# Altium schematic symbol library SparkFun-LED.SCHLIB: 86 symbols (part 2 of 2)
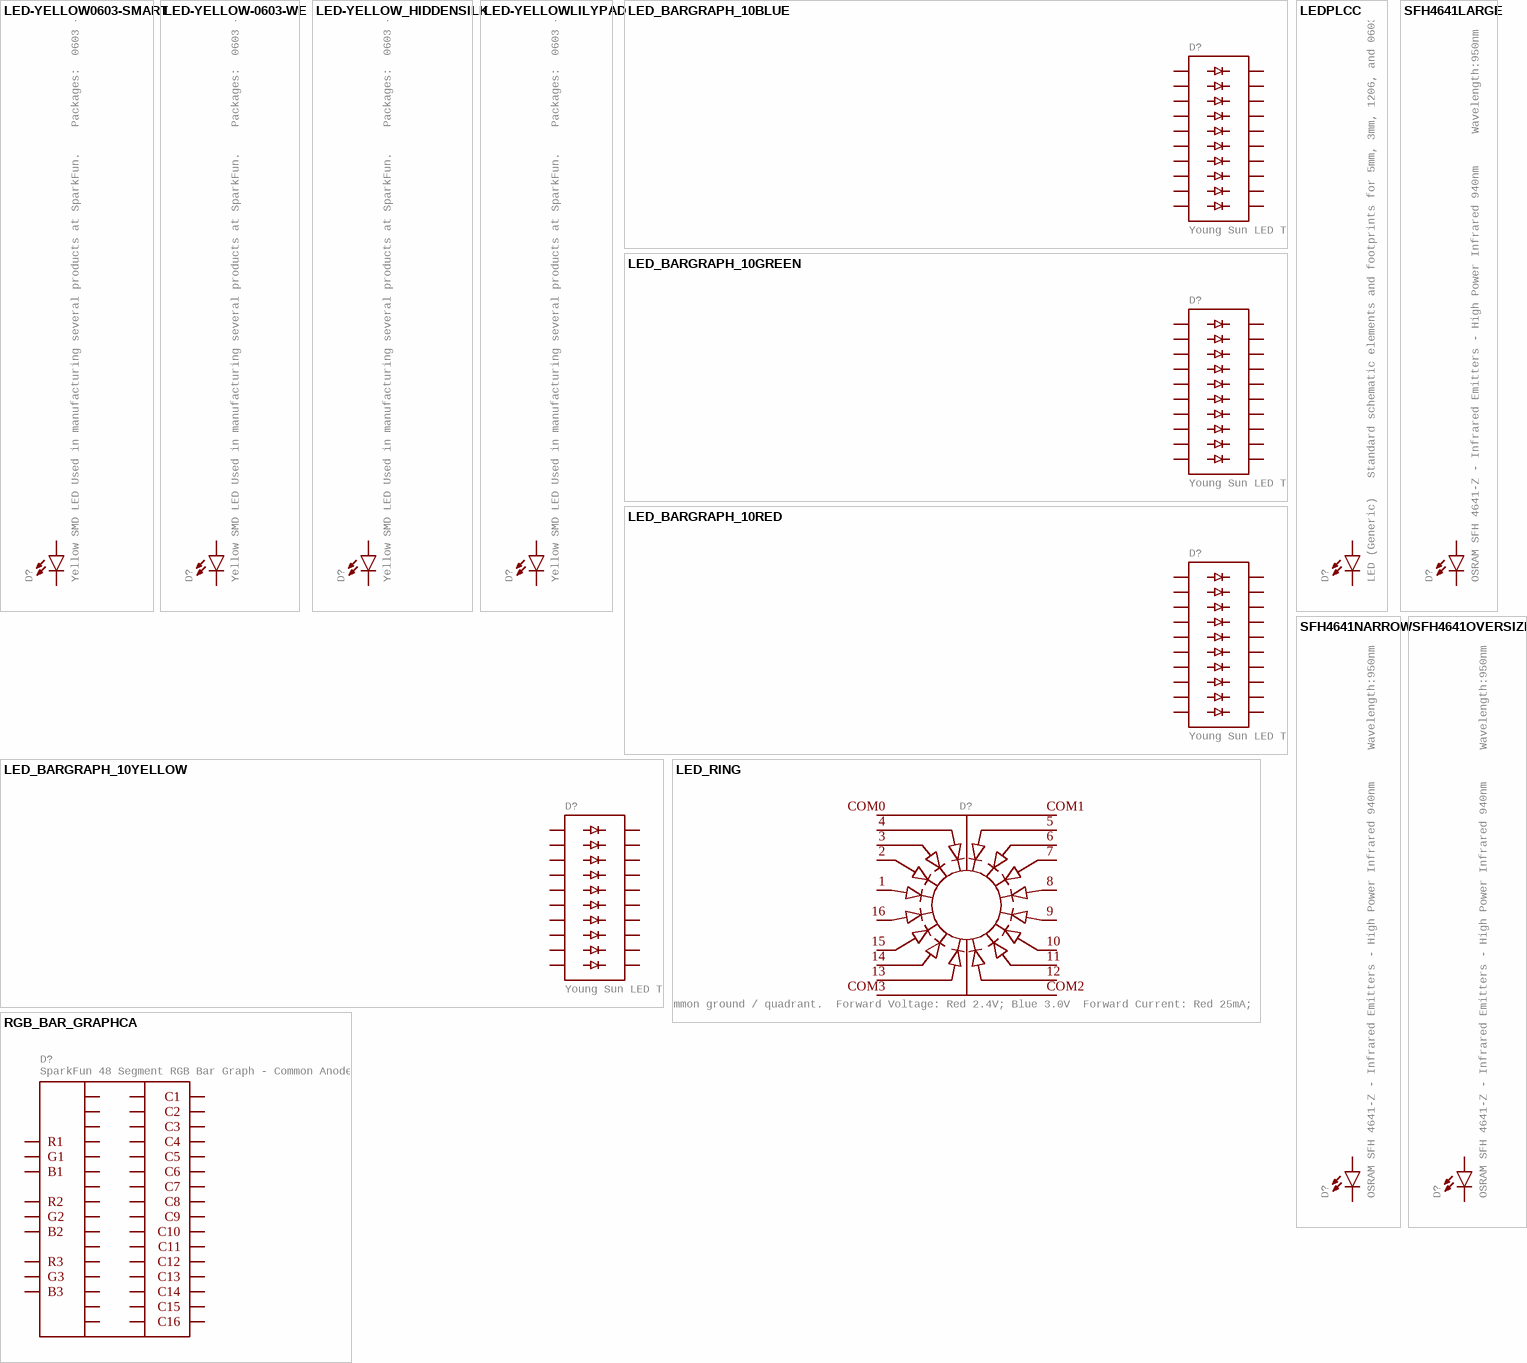
[diagram p6: symbols LED-YELLOW0603-SMART to SFH4641OVERSIZE]

## SFH4641NARROW
designator D?, comment OSRAM SFH 4641-Z - Infrared Emitters - High Power Infrared 940nm     Wavelength:950nm  Beam Angle:20 degree  Forward Current:70mA  Forward Voltage:1.6V    Variants:  Large:Large pads  Narrow:Narrow pads  Oversize:Oversize pads  Short:Short pads  Short2:Short, wide pads       SparkFun Products:  ZX Distance and Gesture Sensor
GateName_1: G$1; SymbolName_1: LED; DeviceName: NARROW; PROD_ID: DIO-11994; LibraryName: SparkFun-LED; DeviceSetName: SFH4641; Package: SFH4641-NARROW
footprint SFH4641-NARROW
pins: A, C

## SFH4641OVERSIZE
designator D?, comment OSRAM SFH 4641-Z - Infrared Emitters - High Power Infrared 940nm     Wavelength:950nm  Beam Angle:20 degree  Forward Current:70mA  Forward Voltage:1.6V    Variants:  Large:Large pads  Narrow:Narrow pads  Oversize:Oversize pads  Short:Short pads  Short2:Short, wide pads       SparkFun Products:  ZX Distance and Gesture Sensor
GateName_1: G$1; SymbolName_1: LED; PROD_ID: DIO-11994; DeviceName: OVERSIZE; LibraryName: SparkFun-LED; DeviceSetName: SFH4641; Package: SFH4641-OVERSIZE
footprint SFH4641-OVERSIZE
pins: A, C

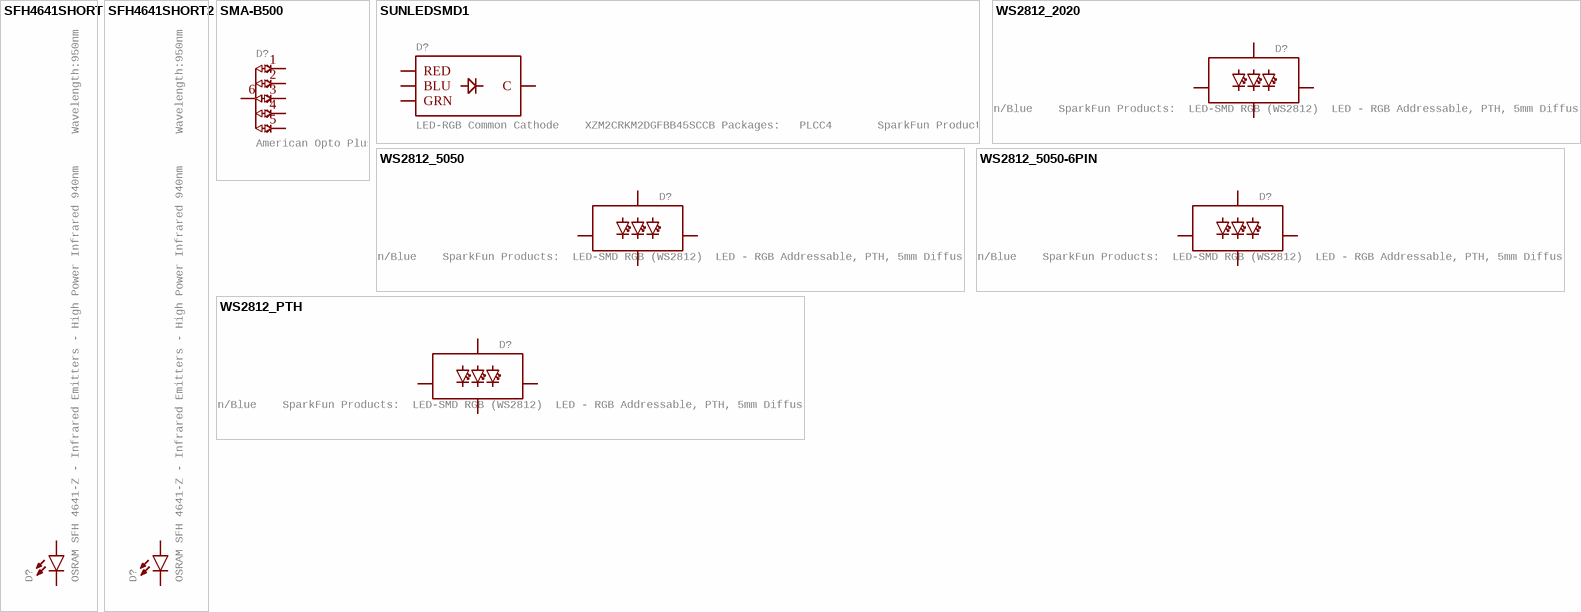
[diagram p5: symbols SFH4641SHORT to WS2812_PTH]

## SFH4641SHORT
designator D?, comment OSRAM SFH 4641-Z - Infrared Emitters - High Power Infrared 940nm     Wavelength:950nm  Beam Angle:20 degree  Forward Current:70mA  Forward Voltage:1.6V    Variants:  Large:Large pads  Narrow:Narrow pads  Oversize:Oversize pads  Short:Short pads  Short2:Short, wide pads       SparkFun Products:  ZX Distance and Gesture Sensor
GateName_1: G$1; SymbolName_1: LED; DeviceName: SHORT; PROD_ID: DIO-11994; LibraryName: SparkFun-LED; DeviceSetName: SFH4641; Package: SFH4641-SHORT
footprint SFH4641-SHORT
pins: A, C

## SFH4641SHORT2
designator D?, comment OSRAM SFH 4641-Z - Infrared Emitters - High Power Infrared 940nm     Wavelength:950nm  Beam Angle:20 degree  Forward Current:70mA  Forward Voltage:1.6V    Variants:  Large:Large pads  Narrow:Narrow pads  Oversize:Oversize pads  Short:Short pads  Short2:Short, wide pads       SparkFun Products:  ZX Distance and Gesture Sensor
GateName_1: G$1; SymbolName_1: LED; DeviceName: SHORT2; PROD_ID: DIO-11994; LibraryName: SparkFun-LED; DeviceSetName: SFH4641; Package: SFH4641-SHORT2
footprint SFH4641-SHORT2
pins: A, C

## SMA-B500
designator D?, comment American Opto Plus LED Corp. - SMA-B520LB    5 segment SMD LED Bar Graph Display, Bright Blue   SparkFun Products: MyoWare LED Shield
GateName_1: G$1; SymbolName_1: LED_BAR_SMD; DeviceSetName: SMA-B500; PROD_ID: DIO-13127; LibraryName: SparkFun-LED; Package: LED_BAR_SMD
footprint LED_BAR_SMD
pins: 1 (io), 2 (io), 3 (io), 4 (io), 5 (io), 6 (io)

## SUNLEDSMD1
designator D?, comment LED-RGB Common Cathode    XZM2CRKM2DGFBB45SCCB Packages:   PLCC4       SparkFun Products: Lilypad Prototyping Board
GateName_1: G1; SymbolName_1: LED-RGB-CC; DeviceName: SMD1; DeviceSetName: SUNLED; PROD_ID: DIO-13722; LibraryName: SparkFun-LED; Package: PLCC4SMDLED
footprint PLCC4SMDLED
pins: 1 RED (io), 2 GRN (io), 3 BLU (io), 4 C (io)

## WS2812_2020
designator D?, comment Addressable RGB LED - 1 Wire Common names: WS2812, SK6812, Neopixel, APA-106, etc. SMD LED with built-in controller IC.  Color: Red/Green/Blue    SparkFun Products:  LED-SMD RGB (WS2812)  LED - RGB Addressable, PTH, 5mm Diffused (5 Pack)  LED - RGB Addressable, PTH, 5mm Clear (5 Pack)  Blynk Board - ESP8266       Datasheet referenced for footprint: WS2812B-PTH
GateName_1: G$1; SymbolName_1: LED-RGB-ADDRESSABLE-1WIRE; DeviceName: _2020; PROD_ID: DIO-15591; LibraryName: SparkFun-LED; DeviceSetName: WS2812; Package: WS2812-2020
footprint WS2812-2020
pins: DI (io), DO (io), GND (io), VCC (io)

## WS2812_5050
designator D?, comment Addressable RGB LED - 1 Wire Common names: WS2812, SK6812, Neopixel, APA-106, etc. SMD LED with built-in controller IC.  Color: Red/Green/Blue    SparkFun Products:  LED-SMD RGB (WS2812)  LED - RGB Addressable, PTH, 5mm Diffused (5 Pack)  LED - RGB Addressable, PTH, 5mm Clear (5 Pack)  Blynk Board - ESP8266       Datasheet referenced for footprint: WS2812B-PTH
GateName_1: G$1; SymbolName_1: LED-RGB-ADDRESSABLE-1WIRE; DeviceName: _5050; PROD_ID: DIO-12503; LibraryName: SparkFun-LED; DeviceSetName: WS2812; Package: WS2812-5X5-4PIN
footprint WS2812-5X5-4PIN
pins: DI (io), DO (io), GND (io), VCC (io)

## WS2812_5050-6PIN
designator D?, comment Addressable RGB LED - 1 Wire Common names: WS2812, SK6812, Neopixel, APA-106, etc. SMD LED with built-in controller IC.  Color: Red/Green/Blue    SparkFun Products:  LED-SMD RGB (WS2812)  LED - RGB Addressable, PTH, 5mm Diffused (5 Pack)  LED - RGB Addressable, PTH, 5mm Clear (5 Pack)  Blynk Board - ESP8266       Datasheet referenced for footprint: WS2812B-PTH
GateName_1: G$1; SymbolName_1: LED-RGB-ADDRESSABLE-1WIRE; DeviceName: _5050-6PIN; PROD_ID: DIO-11598; LibraryName: SparkFun-LED; DeviceSetName: WS2812; Package: LED-TRICOLOR-5050-IC
footprint LED-TRICOLOR-5050-IC
pins: DI (io), DO (io), GND (io), VCC@3,5 VCC (io)

## WS2812_PTH
designator D?, comment Addressable RGB LED - 1 Wire Common names: WS2812, SK6812, Neopixel, APA-106, etc. SMD LED with built-in controller IC.  Color: Red/Green/Blue    SparkFun Products:  LED-SMD RGB (WS2812)  LED - RGB Addressable, PTH, 5mm Diffused (5 Pack)  LED - RGB Addressable, PTH, 5mm Clear (5 Pack)  Blynk Board - ESP8266       Datasheet referenced for footprint: WS2812B-PTH
GateName_1: G$1; SymbolName_1: LED-RGB-ADDRESSABLE-1WIRE; DeviceName: _PTH; LibraryName: SparkFun-LED; DeviceSetName: WS2812; Package: WS2812B-PTH-KIT
footprint WS2812B-PTH-KIT
pins: DI (io), DO (io), GND (io), VCC (io)